# EAGLE library part 65 (library display-lcd-lxd)
8 Numerical Digit, .50" (12.70) Direct Drive Display Additional Descriptors: none
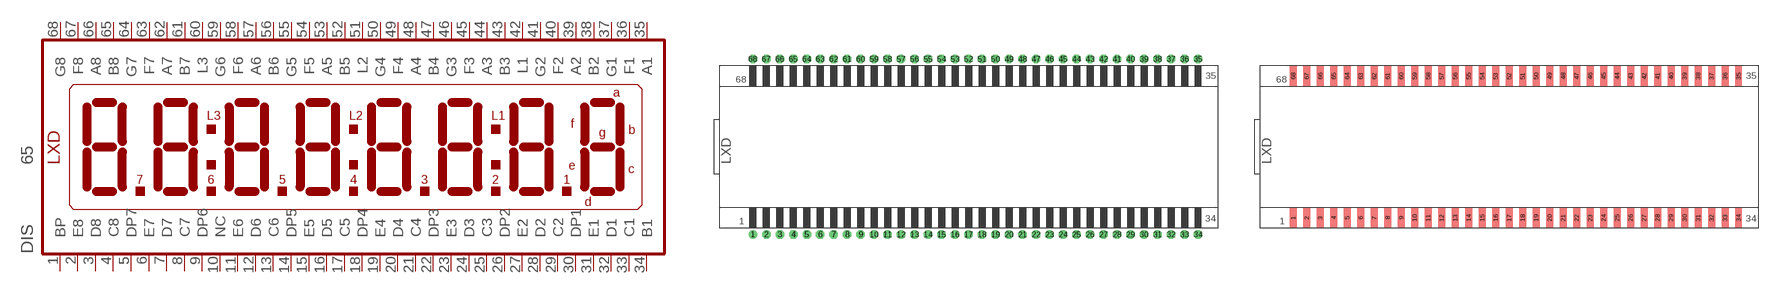
[diagram p3: symbol with the pads of 65-D; footprints 65-D, 65-E]

Designator prefix DIS

## 65DIP  [65-D]
1  BP  pas
2  E8  pas
3  D8  pas
4  C8  pas
5  DP7  pas
6  E7  pas
7  D7  pas
8  C7  pas
9  DP6  pas
10  NC  pas
11  E6  pas
12  D6  pas
13  C6  pas
14  DP5  pas
15  E5  pas
16  D5  pas
17  C5  pas
18  DP4  pas
19  E4  pas
20  D4  pas
21  C4  pas
22  DP3  pas
23  E3  pas
24  D3  pas
25  C3  pas
26  DP2  pas
27  E2  pas
28  D2  pas
29  C2  pas
30  DP1  pas
31  E1  pas
32  D1  pas
33  C1  pas
34  B1  pas
35  A1  pas
36  F1  pas
37  G1  pas
38  B2  pas
39  A2  pas
40  F2  pas
41  G2  pas
42  L1  pas
43  B3  pas
44  A3  pas
45  F3  pas
46  G3  pas
47  B4  pas
48  A4  pas
49  F4  pas
50  G4  pas
51  L2  pas
52  B5  pas
53  A5  pas
54  F5  pas
55  G5  pas
56  B6  pas
57  A6  pas
58  F6  pas
59  G6  pas
60  L3  pas
61  B7  pas
62  A7  pas
63  F7  pas
64  G7  pas
65  B8  pas
66  A8  pas
67  F8  pas
68  G8  pas

## 65SMD  [65-E]
Pads as for 65-D

## Footprint 65-D (pad centres in mm)
Glass Size: 3.695" x 1.20" &nbsp &nbsp &nbsp &nbsp &nbsp &nbsp &nbsp &nbsp &nbsp (93.85 x 30.48)
drill 0.813 pad 1.6 round: 1 -40.64,-16.51
drill 0.813 pad 1.6 octagon: 2 -38.1,-16.51; 3 -35.56,-16.51; 4 -33.02,-16.51; 5 -30.48,-16.51; 6 -27.94,-16.51; 7 -25.4,-16.51; 8 -22.86,-16.51; 9 -20.32,-16.51; 10 -17.78,-16.51; 11 -15.24,-16.51; 12 -12.7,-16.51; 13 -10.16,-16.51; 14 -7.62,-16.51; 15 -5.08,-16.51; 16 -2.54,-16.51; 17 0,-16.51; 18 2.54,-16.51; 19 5.08,-16.51; 20 7.62,-16.51; 21 10.16,-16.51; 22 12.7,-16.51; 23 15.24,-16.51; 24 17.78,-16.51; 25 20.32,-16.51; 26 22.86,-16.51; 27 25.4,-16.51; 28 27.94,-16.51; 29 30.48,-16.51; 30 33.02,-16.51; 31 35.56,-16.51; 32 38.1,-16.51; 33 40.64,-16.51; 34 43.18,-16.51; 35 43.18,16.51; 36 40.64,16.51; 37 38.1,16.51; 38 35.56,16.51; 39 33.02,16.51; 40 30.48,16.51; 41 27.94,16.51; 42 25.4,16.51; 43 22.86,16.51; 44 20.32,16.51; 45 17.78,16.51; 46 15.24,16.51; 47 12.7,16.51; 48 10.16,16.51; 49 7.62,16.51; 50 5.08,16.51; 51 2.54,16.51; 52 0,16.51; 53 -2.54,16.51; 54 -5.08,16.51; 55 -7.62,16.51; 56 -10.16,16.51; 57 -12.7,16.51; 58 -15.24,16.51; 59 -17.78,16.51; 60 -20.32,16.51; 61 -22.86,16.51; 62 -25.4,16.51; 63 -27.94,16.51; 64 -30.48,16.51; 65 -33.02,16.51; 66 -35.56,16.51; 67 -38.1,16.51; 68 -40.64,16.51

## Footprint 65-E (pad centres in mm)
Glass Size: 3.695" x 1.20" &nbsp &nbsp &nbsp &nbsp &nbsp &nbsp &nbsp &nbsp &nbsp (93.85 x 30.48)
smd 1.27 x 3.81: 1 -40.64,-13.335; 2 -38.1,-13.335; 3 -35.56,-13.335; 4 -33.02,-13.335; 5 -30.48,-13.335; 6 -27.94,-13.335; 7 -25.4,-13.335; 8 -22.86,-13.335; 9 -20.32,-13.335; 10 -17.78,-13.335; 11 -15.24,-13.335; 12 -12.7,-13.335; 13 -10.16,-13.335; 14 -7.62,-13.335; 15 -5.08,-13.335; 16 -2.54,-13.335; 17 0,-13.335; 18 2.54,-13.335; 19 5.08,-13.335; 20 7.62,-13.335; 21 10.16,-13.335; 22 12.7,-13.335; 23 15.24,-13.335; 24 17.78,-13.335; 25 20.32,-13.335; 26 22.86,-13.335; 27 25.4,-13.335; 28 27.94,-13.335; 29 30.48,-13.335; 30 33.02,-13.335; 31 35.56,-13.335; 32 38.1,-13.335; 33 40.64,-13.335; 34 43.18,-13.335; 35 43.18,13.335; 36 40.64,13.335; 37 38.1,13.335; 38 35.56,13.335; 39 33.02,13.335; 40 30.48,13.335; 41 27.94,13.335; 42 25.4,13.335; 43 22.86,13.335; 44 20.32,13.335; 45 17.78,13.335; 46 15.24,13.335; 47 12.7,13.335; 48 10.16,13.335; 49 7.62,13.335; 50 5.08,13.335; 51 2.54,13.335; 52 0,13.335; 53 -2.54,13.335; 54 -5.08,13.335; 55 -7.62,13.335; 56 -10.16,13.335; 57 -12.7,13.335; 58 -15.24,13.335; 59 -17.78,13.335; 60 -20.32,13.335; 61 -22.86,13.335; 62 -25.4,13.335; 63 -27.94,13.335; 64 -30.48,13.335; 65 -33.02,13.335; 66 -35.56,13.335; 67 -38.1,13.335; 68 -40.64,13.335